# Altium footprint library TO-92.PcbLib: 1 footprints
Each footprint in its own frame and in the unit in brackets; x right, y up, seen from the top. Pads: shape width x height; smd on the part's side, far side on the other; paste and mask are expansions set on the pad; w line width, h text height; cw(c..) or ccw(c..) is an arc to the next point about the centre after c.
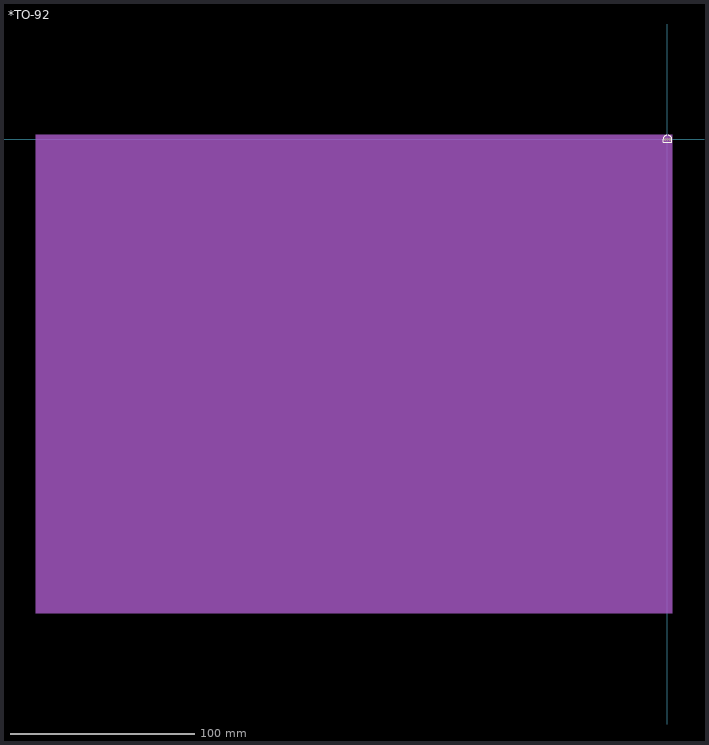
[diagram p0: the footprint, top view; thin cyan lines are the x and y axes]

## *TO-92 [mm]
pads (3):
  rect 1.05x1.05 hole 0.65: 1(1.27,0)
  round 1.05 hole 0.65: 2(0,0) 3(-1.27,0)
Top Overlay:
  lines w0.127: -0.35,2.15 ccw(c-0.35,0.15) -2.35,0.15 -2.35,-1.47 2.35,-1.47 2.35,0.15 ccw(c0.35,0.15) 0.35,2.15
Mechanical 16:
  region: -342.522,2.54 2.54,2.54 2.54,-256.943 -342.522,-256.943